# EAGLE library part ADC*4S021 (library ic-TI)
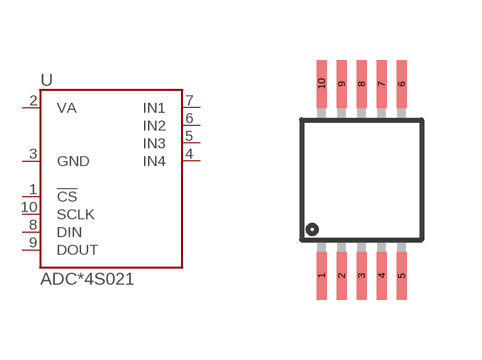
[diagram p47: symbol with the pads of MSOP10; footprint MSOP10]

Designator prefix U

## ADC084S021, ADC104S021, ADC124S021  [MSOP10]
1  !CS
2  VA
3  GND
4  IN4
5  IN3
6  IN2
7  IN1
8  DIN
9  DOUT
10  SCLK

## Footprint MSOP10 (pad centres in mm)
smd 0.25 x 1.2: 1 -1,-2.4; 2 -0.5,-2.4; 3 0,-2.4; 4 0.5,-2.4; 5 1,-2.4; 6 1,2.4; 7 0.5,2.4; 8 0,2.4; 9 -0.5,2.4; 10 -1,2.4